# Altium footprint library RESC5025X055B.PcbLib: 3 footprints
Each footprint in its own frame and in the unit in brackets; x right, y up, seen from the top. Pads: shape width x height; smd on the part's side, far side on the other; paste and mask are expansions set on the pad; w line width, h text height; cw(c..) or ccw(c..) is an arc to the next point about the centre after c.
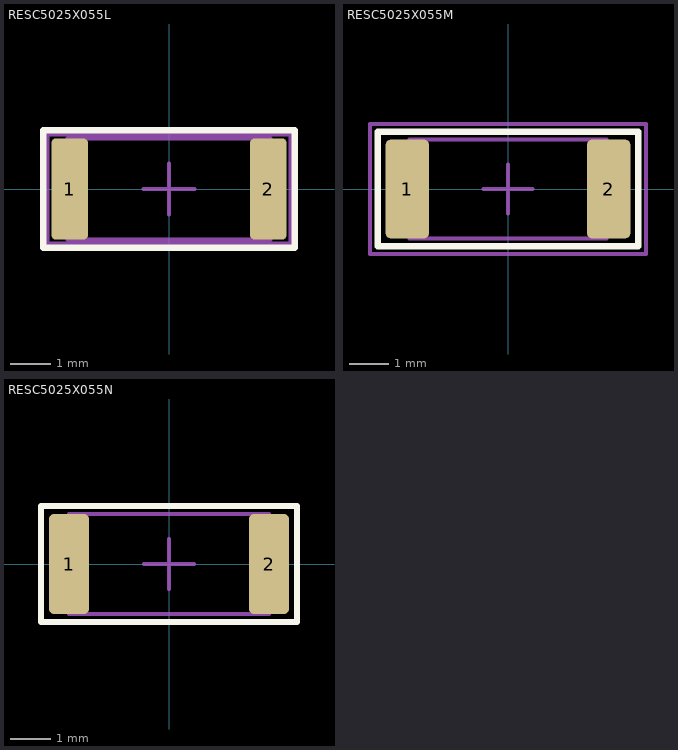
[diagram p0: the footprints below, top view; thin cyan lines are the x and y axes]

## RESC5025X055L [mm] "Resistors, Chip"
height 0.65
pads (2):
  rrect25% 0.9x2.5 smd: 1(-2.45,0) 2(2.45,0)
Top Overlay:
  lines w0.16: -3.1,-1.45 3.1,-1.45 3.1,1.45 -3.1,1.45 -3.1,-1.45
Top Component Center:
  lines w0.1: -0.625,0 0.625,0 ; 0,-0.625 0,0.625
Top Courtyard:
  lines w0.1: -3,-1.35 3,-1.35 3,1.35 -3,1.35 -3,-1.35
Top Assembly:
  lines w0.1: -2.5,-1.25 2.5,-1.25 2.5,1.25 -2.5,1.25 -2.5,-1.25
  text ".Designator" at 0,0 h1
3D body "RESC5025X055L.STEP": height 0.55, standoff 0, extent -2.5,-1.25 2.5,1.25

## RESC5025X055M [mm] "Resistors, Chip"
height 0.65
pads (2):
  rrect23% 1.1x2.5 smd: 1(-2.55,0) 2(2.55,0)
Top Overlay:
  lines w0.16: -3.3,-1.45 3.3,-1.45 3.3,1.45 -3.3,1.45 -3.3,-1.45
Top Component Center:
  lines w0.1: -0.625,0 0.625,0 ; 0,-0.625 0,0.625
Top Courtyard:
  lines w0.1: -3.5,-1.65 3.5,-1.65 3.5,1.65 -3.5,1.65 -3.5,-1.65
Top Assembly:
  lines w0.1: -2.5,-1.25 2.5,-1.25 2.5,1.25 -2.5,1.25 -2.5,-1.25
  text ".Designator" at 0,0 h1
3D body "RESC5025X055M.STEP": height 0.55, standoff 0, extent -2.5,-1.25 2.5,1.25

## RESC5025X055N [mm] "Resistors, Chip"
height 0.65
pads (2):
  rrect25% 1x2.5 smd: 1(-2.5,0) 2(2.5,0)
Top Overlay:
  lines w0.16: -3.2,-1.45 3.2,-1.45 3.2,1.45 -3.2,1.45 -3.2,-1.45
Top Component Center:
  lines w0.1: -0.625,0 0.625,0 ; 0,-0.625 0,0.625
Top Courtyard:
  lines w0.1: -3.2,-1.45 3.2,-1.45 3.2,1.45 -3.2,1.45 -3.2,-1.45
Top Assembly:
  lines w0.1: -2.5,-1.25 2.5,-1.25 2.5,1.25 -2.5,1.25 -2.5,-1.25
  text ".Designator" at 0,0 h1
3D body "RESC5025X055N.STEP": height 0.55, standoff 0, extent -2.5,-1.25 2.5,1.25